# Altium schematic symbol library WE-XHMI.SchLib: 178 symbols (part 1 of 4)
Pins are listed as number, name and electrical type; pins without a type are passive.

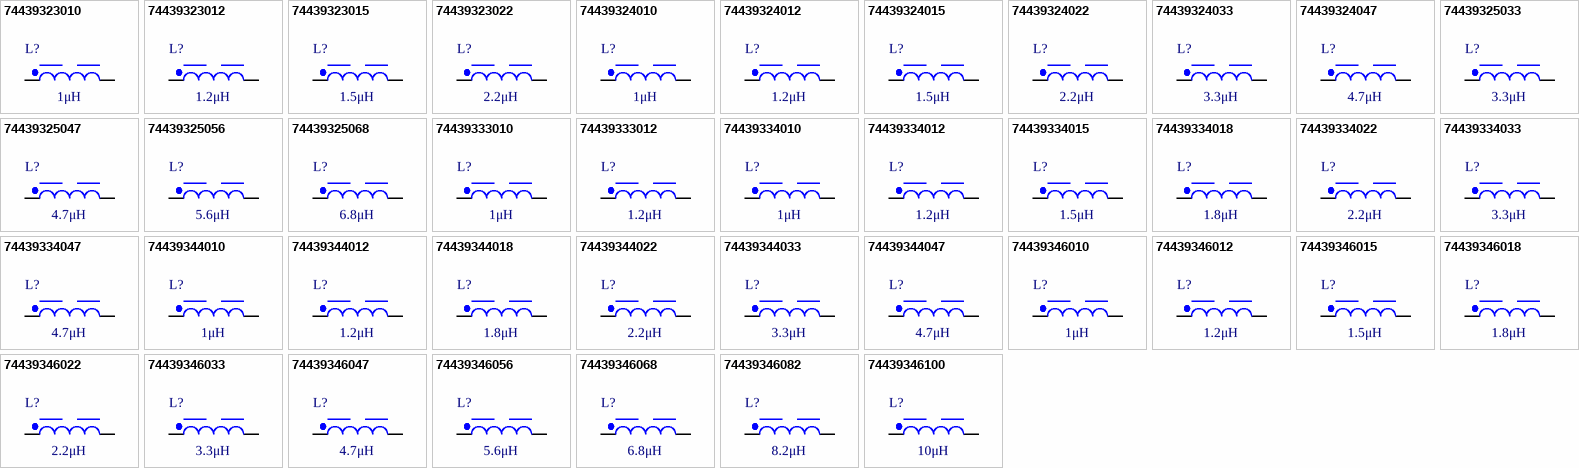
[diagram p0: symbols 74439323010 to 74439346100]

## 74439323010
designator L?, comment 1μH
WE-XHMI SMT Power Inductor, size 4020, 1μH, 10A, 13.44mΩ; Manufacturer Part Number: 74439323010; Manufacturer: Wurth Elektronik; Case/Size Code: 4020; DC Resistance: 10.7mΩ; Saturation Current @ 30%: 10.2A; Self Resonant Frequency: 60MHz; Category: Power Inductors; Match Code: WE-XHMI; ComponentLink1Description: Website Link; ComponentLink1URL: https://www.we-online.com/redexpert/article/74439323010?ad; ComponentLink2Description: Datasheet Link; ComponentLink2URL: https://www.we-online.com/redexpert/spec/74439323010?ad; Mount: Surface Mount; Min Operating Temperature: -40°C; Max Operating Temperature: 125°C; Packaging: Tape and Reel; Length: 4.3mm; Width: 4.3mm; Height: 2mm; DC Resistance Max: 13.44mΩ; Inductance: 1μH; Performance Rated Current: 10A
footprint WE-XHMI_4020
simulation model 4020_74439323010_1u
pins: 1, 2

## 74439323012
designator L?, comment 1.2μH
WE-XHMI SMT Power Inductor, size 4020, 1.2μH, 8.9A, 16.08mΩ; Manufacturer Part Number: 74439323012; Manufacturer: Wurth Elektronik; Case/Size Code: 4020; DC Resistance: 12.5mΩ; Saturation Current @ 30%: 8.6A; Self Resonant Frequency: 55MHz; Category: Power Inductors; Match Code: WE-XHMI; ComponentLink1Description: Website Link; ComponentLink1URL: https://www.we-online.com/redexpert/article/74439323012?ad; ComponentLink2Description: Datasheet Link; ComponentLink2URL: https://www.we-online.com/redexpert/spec/74439323012?ad; Mount: Surface Mount; Min Operating Temperature: -40°C; Max Operating Temperature: 125°C; Packaging: Tape and Reel; Length: 4.3mm; Width: 4.3mm; Height: 2mm; DC Resistance Max: 16.08mΩ; Inductance: 1.2μH; Performance Rated Current: 8.9A
footprint WE-XHMI_4020
simulation model 4020_74439323012_1.2u
pins: 1, 2

## 74439323015
designator L?, comment 1.5μH
WE-XHMI SMT Power Inductor, size 4020, 1.5μH, 7.8A, 18.48mΩ; Manufacturer Part Number: 74439323015; Manufacturer: Wurth Elektronik; Case/Size Code: 4020; DC Resistance: 16.3mΩ; Saturation Current @ 30%: 8.4A; Self Resonant Frequency: 53MHz; Category: Power Inductors; Match Code: WE-XHMI; ComponentLink1Description: Website Link; ComponentLink1URL: https://www.we-online.com/redexpert/article/74439323015?ad; ComponentLink2Description: Datasheet Link; ComponentLink2URL: https://www.we-online.com/redexpert/spec/74439323015?ad; Mount: Surface Mount; Min Operating Temperature: -40°C; Max Operating Temperature: 125°C; Packaging: Tape and Reel; Length: 4.3mm; Width: 4.3mm; Height: 2mm; DC Resistance Max: 18.48mΩ; Inductance: 1.5μH; Performance Rated Current: 7.8A
footprint WE-XHMI_4020
simulation model 4020_74439323015_1.5u
pins: 1, 2

## 74439323022
designator L?, comment 2.2μH
WE-XHMI SMT Power Inductor, size 4020, 2.2μH, 7.2A, 23.52mΩ; Manufacturer Part Number: 74439323022; Manufacturer: Wurth Elektronik; Case/Size Code: 4020; DC Resistance: 20.2mΩ; Saturation Current @ 30%: 6.3A; Self Resonant Frequency: 37MHz; Category: Power Inductors; Match Code: WE-XHMI; ComponentLink1Description: Website Link; ComponentLink1URL: https://www.we-online.com/redexpert/article/74439323022?ad; ComponentLink2Description: Datasheet Link; ComponentLink2URL: https://www.we-online.com/redexpert/spec/74439323022?ad; Mount: Surface Mount; Min Operating Temperature: -40°C; Max Operating Temperature: 125°C; Packaging: Tape and Reel; Length: 4.3mm; Width: 4.3mm; Height: 2mm; DC Resistance Max: 23.52mΩ; Inductance: 2.2μH; Performance Rated Current: 7.2A
footprint WE-XHMI_4020
simulation model 4020_74439323022_2.2u
pins: 1, 2

## 74439324010
designator L?, comment 1μH
WE-XHMI SMT Power Inductor, size 4030, 1μH, 11.1A, 10.32mΩ; Manufacturer Part Number: 74439324010; Manufacturer: Wurth Elektronik; Case/Size Code: 4030; DC Resistance: 8.7mΩ; Saturation Current @ 30%: 12A; Self Resonant Frequency: 55MHz; Category: Power Inductors; Match Code: WE-XHMI; ComponentLink1Description: Website Link; ComponentLink1URL: https://www.we-online.com/redexpert/article/74439324010?ad; ComponentLink2Description: Datasheet Link; ComponentLink2URL: https://www.we-online.com/redexpert/spec/74439324010?ad; Mount: Surface Mount; Min Operating Temperature: -40°C; Max Operating Temperature: 125°C; Packaging: Tape and Reel; Length: 4.3mm; Width: 4.3mm; Height: 3mm; DC Resistance Max: 10.32mΩ; Inductance: 1μH; Performance Rated Current: 11.1A
footprint WE-XHMI_4030
simulation model 4030_74439324010_1u
pins: 1, 2

## 74439324012
designator L?, comment 1.2μH
WE-XHMI SMT Power Inductor, size 4030, 1.2μH, 10.9A, 10.8mΩ; Manufacturer Part Number: 74439324012; Manufacturer: Wurth Elektronik; Case/Size Code: 4030; DC Resistance: 8.9mΩ; Saturation Current @ 30%: 11.8A; Self Resonant Frequency: 52MHz; Category: Power Inductors; Match Code: WE-XHMI; ComponentLink1Description: Website Link; ComponentLink1URL: https://www.we-online.com/redexpert/article/74439324012?ad; ComponentLink2Description: Datasheet Link; ComponentLink2URL: https://www.we-online.com/redexpert/spec/74439324012?ad; Mount: Surface Mount; Min Operating Temperature: -40°C; Max Operating Temperature: 125°C; Packaging: Tape and Reel; Length: 4.3mm; Width: 4.3mm; Height: 3mm; DC Resistance Max: 10.8mΩ; Inductance: 1.2μH; Performance Rated Current: 10.9A
footprint WE-XHMI_4030
simulation model 4030_74439324012_1.2u
pins: 1, 2

## 74439324015
designator L?, comment 1.5μH
WE-XHMI SMT Power Inductor, size 4030, 1.5μH, 10.6A, 12.9mΩ; Manufacturer Part Number: 74439324015; Manufacturer: Wurth Elektronik; Case/Size Code: 4030; DC Resistance: 10.1mΩ; Saturation Current @ 30%: 11.6A; Self Resonant Frequency: 48MHz; Category: Power Inductors; Match Code: WE-XHMI; ComponentLink1Description: Website Link; ComponentLink1URL: https://www.we-online.com/redexpert/article/74439324015?ad; ComponentLink2Description: Datasheet Link; ComponentLink2URL: https://www.we-online.com/redexpert/spec/74439324015?ad; Mount: Surface Mount; Min Operating Temperature: -40°C; Max Operating Temperature: 125°C; Packaging: Tape and Reel; Length: 4.3mm; Width: 4.3mm; Height: 3mm; DC Resistance Max: 12.9mΩ; Inductance: 1.5μH; Performance Rated Current: 10.6A
footprint WE-XHMI_4030
simulation model 4030_74439324015_1.5u
pins: 1, 2

## 74439324022
designator L?, comment 2.2μH
WE-XHMI SMT Power Inductor, size 4030, 2.2μH, 7.8A, 19.8mΩ; Manufacturer Part Number: 74439324022; Manufacturer: Wurth Elektronik; Case/Size Code: 4030; DC Resistance: 16.6mΩ; Saturation Current @ 30%: 10.5A; Self Resonant Frequency: 40MHz; Category: Power Inductors; Match Code: WE-XHMI; ComponentLink1Description: Website Link; ComponentLink1URL: https://www.we-online.com/redexpert/article/74439324022?ad; ComponentLink2Description: Datasheet Link; ComponentLink2URL: https://www.we-online.com/redexpert/spec/74439324022?ad; Mount: Surface Mount; Min Operating Temperature: -40°C; Max Operating Temperature: 125°C; Packaging: Tape and Reel; Length: 4.3mm; Width: 4.3mm; Height: 3mm; DC Resistance Max: 19.8mΩ; Inductance: 2.2μH; Performance Rated Current: 7.8A
footprint WE-XHMI_4030
simulation model 4030_74439324022_2.2u
pins: 1, 2

## 74439324033
designator L?, comment 3.3μH
WE-XHMI SMT Power Inductor, size 4030, 3.3μH, 7.1A, 25.5mΩ; Manufacturer Part Number: 74439324033; Manufacturer: Wurth Elektronik; Case/Size Code: 4030; DC Resistance: 20.2mΩ; Saturation Current @ 30%: 8.2A; Self Resonant Frequency: 30MHz; Category: Power Inductors; Match Code: WE-XHMI; ComponentLink1Description: Website Link; ComponentLink1URL: https://www.we-online.com/redexpert/article/74439324033?ad; ComponentLink2Description: Datasheet Link; ComponentLink2URL: https://www.we-online.com/redexpert/spec/74439324033?ad; Mount: Surface Mount; Min Operating Temperature: -40°C; Max Operating Temperature: 125°C; Packaging: Tape and Reel; Length: 4.3mm; Width: 4.3mm; Height: 3mm; DC Resistance Max: 25.5mΩ; Inductance: 3.3μH; Performance Rated Current: 7.1A
footprint WE-XHMI_4030
simulation model 4030_74439324033_3.3u
pins: 1, 2

## 74439324047
designator L?, comment 4.7μH
WE-XHMI SMT Power Inductor, size 4030, 4.7μH, 5.3A, 36.96mΩ; Manufacturer Part Number: 74439324047; Manufacturer: Wurth Elektronik; Case/Size Code: 4030; DC Resistance: 31.3mΩ; Saturation Current @ 30%: 5.8A; Self Resonant Frequency: 28MHz; Category: Power Inductors; Match Code: WE-XHMI; ComponentLink1Description: Website Link; ComponentLink1URL: https://www.we-online.com/redexpert/article/74439324047?ad; ComponentLink2Description: Datasheet Link; ComponentLink2URL: https://www.we-online.com/redexpert/spec/74439324047?ad; Mount: Surface Mount; Min Operating Temperature: -40°C; Max Operating Temperature: 125°C; Packaging: Tape and Reel; Length: 4.3mm; Width: 4.3mm; Height: 3mm; DC Resistance Max: 36.96mΩ; Inductance: 4.7μH; Performance Rated Current: 5.3A
footprint WE-XHMI_4030
simulation model 4030_74439324047_4.7u
pins: 1, 2

## 74439325033
designator L?, comment 3.3μH
WE-XHMI SMT Power Inductor, size 4040, 3.3μH, 7.2A, 25mΩ; Manufacturer Part Number: 74439325033; Manufacturer: Wurth Elektronik; Case/Size Code: 4040; DC Resistance: 20.4mΩ; Saturation Current @ 30%: 7.9A; Self Resonant Frequency: 30MHz; Category: Power Inductors; Match Code: WE-XHMI; ComponentLink1Description: Website Link; ComponentLink1URL: https://www.we-online.com/redexpert/article/74439325033?ad; ComponentLink2Description: Datasheet Link; ComponentLink2URL: https://www.we-online.com/redexpert/spec/74439325033?ad; Mount: Surface Mount; Min Operating Temperature: -40°C; Max Operating Temperature: 125°C; Packaging: Tape and Reel; Length: 4.3mm; Width: 4.3mm; Height: 4.1mm; DC Resistance Max: 25mΩ; Inductance: 3.3μH; Performance Rated Current: 7.2A
footprint WE-XHMI_4040
simulation model 4040_74439325033_3.3u
pins: 1, 2

## 74439325047
designator L?, comment 4.7μH
WE-XHMI SMT Power Inductor, size 4040, 4.7μH, 5.7A, 34.8mΩ; Manufacturer Part Number: 74439325047; Manufacturer: Wurth Elektronik; Case/Size Code: 4040; DC Resistance: 26.5mΩ; Self Resonant Frequency: 25MHz; Category: Power Inductors; Match Code: WE-XHMI; ComponentLink1Description: Website Link; ComponentLink1URL: https://www.we-online.com/redexpert/article/74439325047?ad; ComponentLink2Description: Datasheet Link; ComponentLink2URL: https://www.we-online.com/redexpert/spec/74439325047?ad; Mount: Surface Mount; Min Operating Temperature: -40°C; Max Operating Temperature: 125°C; Packaging: Tape and Reel; Length: 4.3mm; Width: 4.3mm; Height: 4.1mm; DC Resistance Max: 34.8mΩ; Inductance: 4.7μH; Performance Rated Current: 5.7A; Saturation Current @ 30%: 5.7A
footprint WE-XHMI_4040
simulation model 4040_74439325047_4.7u
pins: 1, 2

## 74439325056
designator L?, comment 5.6μH
WE-XHMI SMT Power Inductor, size 4040, 5.6μH, 5.1A, 44.4mΩ; Manufacturer Part Number: 74439325056; Manufacturer: Wurth Elektronik; Case/Size Code: 4040; DC Resistance: 34.2mΩ; Saturation Current @ 30%: 5.5A; Self Resonant Frequency: 23MHz; Category: Power Inductors; Match Code: WE-XHMI; ComponentLink1Description: Website Link; ComponentLink1URL: https://www.we-online.com/redexpert/article/74439325056?ad; ComponentLink2Description: Datasheet Link; ComponentLink2URL: https://www.we-online.com/redexpert/spec/74439325056?ad; Mount: Surface Mount; Min Operating Temperature: -40°C; Max Operating Temperature: 125°C; Packaging: Tape and Reel; Length: 4.3mm; Width: 4.3mm; Height: 4.1mm; DC Resistance Max: 44.4mΩ; Inductance: 5.6μH; Performance Rated Current: 5.1A
footprint WE-XHMI_4040
simulation model 4040_74439325056_5.6u
pins: 1, 2

## 74439325068
designator L?, comment 6.8μH
WE-XHMI SMT Power Inductor, size 4040, 6.8μH, 4.1A, 55mΩ; Manufacturer Part Number: 74439325068; Manufacturer: Wurth Elektronik; Case/Size Code: 4040; DC Resistance: 42.3mΩ; Saturation Current @ 30%: 4.9A; Self Resonant Frequency: 23MHz; Category: Power Inductors; Match Code: WE-XHMI; ComponentLink1Description: Website Link; ComponentLink1URL: https://www.we-online.com/redexpert/article/74439325068?ad; ComponentLink2Description: Datasheet Link; ComponentLink2URL: https://www.we-online.com/redexpert/spec/74439325068?ad; Mount: Surface Mount; Min Operating Temperature: -40°C; Max Operating Temperature: 125°C; Packaging: Tape and Reel; Length: 4.3mm; Width: 4.3mm; Height: 4.1mm; DC Resistance Max: 55mΩ; Inductance: 6.8μH; Performance Rated Current: 4.1A
footprint WE-XHMI_4040
simulation model 4040_74439325068_6.8u
pins: 1, 2

## 74439333010
designator L?, comment 1μH
WE-XHMI SMT Power Inductor, size 5020, 1μH, 11.4A, 10.92mΩ; Manufacturer Part Number: 74439333010; Manufacturer: Wurth Elektronik; Case/Size Code: 5020; DC Resistance: 9.5mΩ; Saturation Current @ 30%: 14.4A; Self Resonant Frequency: 55MHz; Category: Power Inductors; Match Code: WE-XHMI; ComponentLink1Description: Website Link; ComponentLink1URL: https://www.we-online.com/redexpert/article/74439333010?ad; ComponentLink2Description: Datasheet Link; ComponentLink2URL: https://www.we-online.com/redexpert/spec/74439333010?ad; Mount: Surface Mount; Min Operating Temperature: -40°C; Max Operating Temperature: 125°C; Packaging: Tape and Reel; Length: 5.55mm; Width: 5.35mm; Height: 2mm; DC Resistance Max: 10.92mΩ; Inductance: 1μH; Performance Rated Current: 11.4A
footprint WE-XHMI_5020
simulation model 5020_74439333010_1u
pins: 1, 2

## 74439333012
designator L?, comment 1.2μH
WE-XHMI SMT Power Inductor, size 5020, 1.2μH, 10.7A, 15mΩ; Manufacturer Part Number: 74439333012; Manufacturer: Wurth Elektronik; Case/Size Code: 5020; DC Resistance: 10.8mΩ; Saturation Current @ 30%: 11.6A; Self Resonant Frequency: 50MHz; Category: Power Inductors; Match Code: WE-XHMI; ComponentLink1Description: Website Link; ComponentLink1URL: https://www.we-online.com/redexpert/article/74439333012?ad; ComponentLink2Description: Datasheet Link; ComponentLink2URL: https://www.we-online.com/redexpert/spec/74439333012?ad; Mount: Surface Mount; Min Operating Temperature: -40°C; Max Operating Temperature: 125°C; Packaging: Tape and Reel; Length: 5.55mm; Width: 5.35mm; Height: 2mm; DC Resistance Max: 15mΩ; Inductance: 1.2μH; Performance Rated Current: 10.7A
footprint WE-XHMI_5020
simulation model 5020_74439333012_1.2u
pins: 1, 2

## 74439334010
designator L?, comment 1μH
WE-XHMI SMT Power Inductor, size 5030, 1μH, 14.7A, 8.4mΩ; Manufacturer Part Number: 74439334010; Manufacturer: Wurth Elektronik; Case/Size Code: 5030; DC Resistance: 6.3mΩ; Saturation Current @ 30%: 13.4A; Self Resonant Frequency: 48MHz; Category: Power Inductors; Match Code: WE-XHMI; ComponentLink1Description: Website Link; ComponentLink1URL: https://www.we-online.com/redexpert/article/74439334010?ad; ComponentLink2Description: Datasheet Link; ComponentLink2URL: https://www.we-online.com/redexpert/spec/74439334010?ad; Mount: Surface Mount; Min Operating Temperature: -40°C; Max Operating Temperature: 125°C; Packaging: Tape and Reel; Length: 5.55mm; Width: 5.35mm; Height: 3mm; DC Resistance Max: 8.4mΩ; Inductance: 1μH; Performance Rated Current: 14.7A
footprint WE-XHMI_5030
simulation model 5030_74439334010_1u
pins: 1, 2

## 74439334012
designator L?, comment 1.2μH
WE-XHMI SMT Power Inductor, size 5030, 1.2μH, 13.6A, 8.76mΩ; Manufacturer Part Number: 74439334012; Manufacturer: Wurth Elektronik; Case/Size Code: 5030; DC Resistance: 6.6mΩ; Saturation Current @ 30%: 13.3A; Self Resonant Frequency: 46MHz; Category: Power Inductors; Match Code: WE-XHMI; ComponentLink1Description: Website Link; ComponentLink1URL: https://www.we-online.com/redexpert/article/74439334012?ad; ComponentLink2Description: Datasheet Link; ComponentLink2URL: https://www.we-online.com/redexpert/spec/74439334012?ad; Mount: Surface Mount; Min Operating Temperature: -40°C; Max Operating Temperature: 125°C; Packaging: Tape and Reel; Length: 5.55mm; Width: 5.35mm; Height: 3mm; DC Resistance Max: 8.76mΩ; Inductance: 1.2μH; Performance Rated Current: 13.6A
footprint WE-XHMI_5030
simulation model 5030_74439334012_1.2u
pins: 1, 2

## 74439334015
designator L?, comment 1.5μH
WE-XHMI SMT Power Inductor, size 5030, 1.5μH, 12A, 20.56mΩ; Manufacturer Part Number: 74439334015; Manufacturer: Wurth Elektronik; Case/Size Code: 5030; DC Resistance: 8mΩ; Saturation Current @ 30%: 13A; Self Resonant Frequency: 42MHz; Category: Power Inductors; Match Code: WE-XHMI; ComponentLink1Description: Website Link; ComponentLink1URL: https://www.we-online.com/redexpert/article/74439334015?ad; ComponentLink2Description: Datasheet Link; ComponentLink2URL: https://www.we-online.com/redexpert/spec/74439334015?ad; Mount: Surface Mount; Min Operating Temperature: -40°C; Max Operating Temperature: 125°C; Packaging: Tape and Reel; Length: 5.55mm; Width: 5.35mm; Height: 3mm; DC Resistance Max: 20.56mΩ; Inductance: 1.5μH; Performance Rated Current: 12A
footprint WE-XHMI_5030
simulation model 5030_74439334015_1.5u
pins: 1, 2

## 74439334018
designator L?, comment 1.8μH
WE-XHMI SMT Power Inductor, size 5030, 1.8μH, 10.8A, 10.8mΩ; Manufacturer Part Number: 74439334018; Manufacturer: Wurth Elektronik; Case/Size Code: 5030; DC Resistance: 9.1mΩ; Saturation Current @ 30%: 12.9A; Self Resonant Frequency: 40MHz; Category: Power Inductors; Match Code: WE-XHMI; ComponentLink1Description: Website Link; ComponentLink1URL: https://www.we-online.com/redexpert/article/74439334018?ad; ComponentLink2Description: Datasheet Link; ComponentLink2URL: https://www.we-online.com/redexpert/spec/74439334018?ad; Mount: Surface Mount; Min Operating Temperature: -40°C; Max Operating Temperature: 125°C; Packaging: Tape and Reel; Length: 5.55mm; Width: 5.35mm; Height: 3mm; DC Resistance Max: 10.8mΩ; Inductance: 1.8μH; Performance Rated Current: 10.8A
footprint WE-XHMI_5030
simulation model 5030_74439334018_1.8u
pins: 1, 2

## 74439334022
designator L?, comment 2.2μH
WE-XHMI SMT Power Inductor, size 5030, 2.2μH, 10.3A, 14.52mΩ; Manufacturer Part Number: 74439334022; Manufacturer: Wurth Elektronik; Case/Size Code: 5030; DC Resistance: 11.3mΩ; Saturation Current @ 30%: 12.8A; Self Resonant Frequency: 35MHz; Category: Power Inductors; Match Code: WE-XHMI; ComponentLink1Description: Website Link; ComponentLink1URL: https://www.we-online.com/redexpert/article/74439334022?ad; ComponentLink2Description: Datasheet Link; ComponentLink2URL: https://www.we-online.com/redexpert/spec/74439334022?ad; Mount: Surface Mount; Min Operating Temperature: -40°C; Max Operating Temperature: 125°C; Packaging: Tape and Reel; Length: 5.55mm; Width: 5.35mm; Height: 3mm; DC Resistance Max: 14.52mΩ; Inductance: 2.2μH; Performance Rated Current: 10.3A
footprint WE-XHMI_5030
simulation model 5030_74439334022_2.2u
pins: 1, 2

## 74439334033
designator L?, comment 3.3μH
WE-XHMI SMT Power Inductor, size 5030, 3.3μH, 8.2A, 19.92mΩ; Manufacturer Part Number: 74439334033; Manufacturer: Wurth Elektronik; Case/Size Code: 5030; DC Resistance: 16.3mΩ; Saturation Current @ 30%: 8A; Self Resonant Frequency: 25MHz; Category: Power Inductors; Match Code: WE-XHMI; ComponentLink1Description: Website Link; ComponentLink1URL: https://www.we-online.com/redexpert/article/74439334033?ad; ComponentLink2Description: Datasheet Link; ComponentLink2URL: https://www.we-online.com/redexpert/spec/74439334033?ad; Mount: Surface Mount; Min Operating Temperature: -40°C; Max Operating Temperature: 125°C; Packaging: Tape and Reel; Length: 5.55mm; Width: 5.35mm; Height: 3mm; DC Resistance Max: 19.92mΩ; Inductance: 3.3μH; Performance Rated Current: 8.2A
footprint WE-XHMI_5030
simulation model 5030_74439334033_3.3u
pins: 1, 2

## 74439334047
designator L?, comment 4.7μH
WE-XHMI SMT Power Inductor, size 5030, 4.7μH, 6.8A, 27.96mΩ; Manufacturer Part Number: 74439334047; Manufacturer: Wurth Elektronik; Case/Size Code: 5030; DC Resistance: 22.9mΩ; Saturation Current @ 30%: 7.5A; Self Resonant Frequency: 22MHz; Category: Power Inductors; Match Code: WE-XHMI; ComponentLink1Description: Website Link; ComponentLink1URL: https://www.we-online.com/redexpert/article/74439334047?ad; ComponentLink2Description: Datasheet Link; ComponentLink2URL: https://www.we-online.com/redexpert/spec/74439334047?ad; Mount: Surface Mount; Min Operating Temperature: -40°C; Max Operating Temperature: 125°C; Packaging: Tape and Reel; Length: 5.55mm; Width: 5.35mm; Height: 3mm; DC Resistance Max: 27.96mΩ; Inductance: 4.7μH; Performance Rated Current: 6.8A
footprint WE-XHMI_5030
simulation model 5030_74439334047_4.7u
pins: 1, 2

## 74439344010
designator L?, comment 1μH
WE-XHMI SMT Power Inductor, size 6030, 1μH, 15.75A, 6.05mΩ; Manufacturer Part Number: 74439344010; Manufacturer: Wurth Elektronik; Case/Size Code: 6030; DC Resistance: 5.5mΩ; Saturation Current @ 30%: 24.95A; Self Resonant Frequency: 59MHz; Category: Power Inductors; Match Code: WE-XHMI; ComponentLink1Description: Website Link; ComponentLink1URL: https://www.we-online.com/redexpert/article/74439344010?ad; ComponentLink2Description: Datasheet Link; ComponentLink2URL: https://www.we-online.com/redexpert/spec/74439344010?ad; Mount: Surface Mount; Min Operating Temperature: -40°C; Max Operating Temperature: 125°C; Packaging: Tape and Reel; Length: 6.65mm; Width: 6.45mm; Height: 3mm; DC Resistance Max: 6.05mΩ; Inductance: 1μH; Performance Rated Current: 15.75A
footprint WE-XHMI_6030
simulation model 6030_74439344010_1u
pins: 1, 2

## 74439344012
designator L?, comment 1.2μH
WE-XHMI SMT Power Inductor, size 6030, 1.2μH, 14.45A, 7.04mΩ; Manufacturer Part Number: 74439344012; Manufacturer: Wurth Elektronik; Case/Size Code: 6030; DC Resistance: 6.4mΩ; Saturation Current @ 30%: 21.6A; Self Resonant Frequency: 53MHz; Category: Power Inductors; Match Code: WE-XHMI; ComponentLink1Description: Website Link; ComponentLink1URL: https://www.we-online.com/redexpert/article/74439344012?ad; ComponentLink2Description: Datasheet Link; ComponentLink2URL: https://www.we-online.com/redexpert/spec/74439344012?ad; Mount: Surface Mount; Min Operating Temperature: -40°C; Max Operating Temperature: 125°C; Packaging: Tape and Reel; Length: 6.65mm; Width: 6.45mm; Height: 3mm; DC Resistance Max: 7.04mΩ; Inductance: 1.2μH; Performance Rated Current: 14.45A
footprint WE-XHMI_6030
simulation model 6030_74439344012_1.2u
pins: 1, 2

## 74439344018
designator L?, comment 1.8μH
WE-XHMI SMT Power Inductor, size 6030, 1.8μH, 14.4A, 10.45mΩ; Manufacturer Part Number: 74439344018; Manufacturer: Wurth Elektronik; Case/Size Code: 6030; DC Resistance: 9.7mΩ; Saturation Current @ 30%: 17.6A; Self Resonant Frequency: 38MHz; Category: Power Inductors; Match Code: WE-XHMI; ComponentLink1Description: Website Link; ComponentLink1URL: https://www.we-online.com/redexpert/article/74439344018?ad; ComponentLink2Description: Datasheet Link; ComponentLink2URL: https://www.we-online.com/redexpert/spec/74439344018?ad; Mount: Surface Mount; Min Operating Temperature: -40°C; Max Operating Temperature: 125°C; Packaging: Tape and Reel; Length: 6.65mm; Width: 6.45mm; Height: 3mm; DC Resistance Max: 10.45mΩ; Inductance: 1.8μH; Performance Rated Current: 14.4A
footprint WE-XHMI_6030
simulation model 6030_74439344018_1.8u
pins: 1, 2

## 74439344022
designator L?, comment 2.2μH
WE-XHMI SMT Power Inductor, size 6030, 2.2μH, 10.85A, 11.55mΩ; Manufacturer Part Number: 74439344022; Manufacturer: Wurth Elektronik; Case/Size Code: 6030; DC Resistance: 10.5mΩ; Saturation Current @ 30%: 16.25A; Self Resonant Frequency: 37MHz; Category: Power Inductors; Match Code: WE-XHMI; ComponentLink1Description: Website Link; ComponentLink1URL: https://www.we-online.com/redexpert/article/74439344022?ad; ComponentLink2Description: Datasheet Link; ComponentLink2URL: https://www.we-online.com/redexpert/spec/74439344022?ad; Mount: Surface Mount; Min Operating Temperature: -40°C; Max Operating Temperature: 125°C; Packaging: Tape and Reel; Length: 6.65mm; Width: 6.45mm; Height: 3mm; DC Resistance Max: 11.55mΩ; Inductance: 2.2μH; Performance Rated Current: 10.85A
footprint WE-XHMI_6030
simulation model 6030_74439344022_2.2u
pins: 1, 2

## 74439344033
designator L?, comment 3.3μH
WE-XHMI SMT Power Inductor, size 6030, 3.3μH, 7.65A, 21.12mΩ; Manufacturer Part Number: 74439344033; Manufacturer: Wurth Elektronik; Case/Size Code: 6030; DC Resistance: 19.2mΩ; Saturation Current @ 30%: 14.5A; Self Resonant Frequency: 31MHz; Category: Power Inductors; Match Code: WE-XHMI; ComponentLink1Description: Website Link; ComponentLink1URL: https://www.we-online.com/redexpert/article/74439344033?ad; ComponentLink2Description: Datasheet Link; ComponentLink2URL: https://www.we-online.com/redexpert/spec/74439344033?ad; Mount: Surface Mount; Min Operating Temperature: -40°C; Max Operating Temperature: 125°C; Packaging: Tape and Reel; Length: 6.65mm; Width: 6.45mm; Height: 3mm; DC Resistance Max: 21.12mΩ; Inductance: 3.3μH; Performance Rated Current: 7.65A
footprint WE-XHMI_6030
simulation model 6030_74439344033_3.3u
pins: 1, 2

## 74439344047
designator L?, comment 4.7μH
WE-XHMI SMT Power Inductor, size 6030, 4.7μH, 5.8A, 34.1mΩ; Manufacturer Part Number: 74439344047; Manufacturer: Wurth Elektronik; Case/Size Code: 6030; DC Resistance: 31mΩ; Saturation Current @ 30%: 10.5A; Self Resonant Frequency: 28MHz; Category: Power Inductors; Match Code: WE-XHMI; ComponentLink1Description: Website Link; ComponentLink1URL: https://www.we-online.com/redexpert/article/74439344047?ad; ComponentLink2Description: Datasheet Link; ComponentLink2URL: https://www.we-online.com/redexpert/spec/74439344047?ad; Mount: Surface Mount; Min Operating Temperature: -40°C; Max Operating Temperature: 125°C; Packaging: Tape and Reel; Length: 6.65mm; Width: 6.45mm; Height: 3mm; DC Resistance Max: 34.1mΩ; Inductance: 4.7μH; Performance Rated Current: 5.8A
footprint WE-XHMI_6030
simulation model 6030_74439344047_4.7u
pins: 1, 2

## 74439346010
designator L?, comment 1μH
WE-XHMI SMT Power Inductor, size 6060, 1μH, 20.95A, 4.07mΩ; Manufacturer Part Number: 74439346010; Manufacturer: Wurth Elektronik; Case/Size Code: 6060; DC Resistance: 3.39mΩ; Saturation Current @ 30%: 24A; Self Resonant Frequency: 60MHz; Category: Power Inductors; Match Code: WE-XHMI; ComponentLink1Description: Website Link; ComponentLink1URL: https://www.we-online.com/redexpert/article/74439346010?ad; ComponentLink2Description: Datasheet Link; ComponentLink2URL: https://www.we-online.com/redexpert/spec/74439346010?ad; Mount: Surface Mount; Min Operating Temperature: -40°C; Max Operating Temperature: 125°C; Packaging: Tape and Reel; Length: 6.65mm; Width: 6.45mm; Height: 5.8mm; DC Resistance Max: 4.07mΩ; Inductance: 1μH; Performance Rated Current: 20.95A
footprint WE-XHMI_6060
simulation model 6060_74439346010_1u
pins: 1, 2

## 74439346012
designator L?, comment 1.2μH
WE-XHMI SMT Power Inductor, size 6060, 1.2μH, 20.5A, 4.38mΩ; Manufacturer Part Number: 74439346012; Manufacturer: Wurth Elektronik; Case/Size Code: 6060; DC Resistance: 3.65mΩ; Saturation Current @ 30%: 20A; Self Resonant Frequency: 50MHz; Category: Power Inductors; Match Code: WE-XHMI; ComponentLink1Description: Website Link; ComponentLink1URL: https://www.we-online.com/redexpert/article/74439346012?ad; ComponentLink2Description: Datasheet Link; ComponentLink2URL: https://www.we-online.com/redexpert/spec/74439346012?ad; Mount: Surface Mount; Min Operating Temperature: -40°C; Max Operating Temperature: 125°C; Packaging: Tape and Reel; Length: 6.65mm; Width: 6.45mm; Height: 5.8mm; DC Resistance Max: 4.38mΩ; Inductance: 1.2μH; Performance Rated Current: 20.5A
footprint WE-XHMI_6060
simulation model 6060_74439346012_1.2u
pins: 1, 2

## 74439346015
designator L?, comment 1.5μH
WE-XHMI SMT Power Inductor, size 6060, 1.5μH, 19.35A, 4.68mΩ; Manufacturer Part Number: 74439346015; Manufacturer: Wurth Elektronik; Case/Size Code: 6060; DC Resistance: 3.9mΩ; Saturation Current @ 30%: 20.5A; Self Resonant Frequency: 44MHz; Category: Power Inductors; Match Code: WE-XHMI; ComponentLink1Description: Website Link; ComponentLink1URL: https://www.we-online.com/redexpert/article/74439346015?ad; ComponentLink2Description: Datasheet Link; ComponentLink2URL: https://www.we-online.com/redexpert/spec/74439346015?ad; Mount: Surface Mount; Min Operating Temperature: -40°C; Max Operating Temperature: 125°C; Packaging: Tape and Reel; Length: 6.65mm; Width: 6.45mm; Height: 5.8mm; DC Resistance Max: 4.68mΩ; Inductance: 1.5μH; Performance Rated Current: 19.35A
footprint WE-XHMI_6060
simulation model 6060_74439346015_1.5u
pins: 1, 2

## 74439346018
designator L?, comment 1.8μH
WE-XHMI SMT Power Inductor, size 6060, 1.8μH, 17.35A, 5.64mΩ; Manufacturer Part Number: 74439346018; Manufacturer: Wurth Elektronik; Case/Size Code: 6060; DC Resistance: 4.7mΩ; Saturation Current @ 30%: 18.3A; Self Resonant Frequency: 42MHz; Category: Power Inductors; Match Code: WE-XHMI; ComponentLink1Description: Website Link; ComponentLink1URL: https://www.we-online.com/redexpert/article/74439346018?ad; ComponentLink2Description: Datasheet Link; ComponentLink2URL: https://www.we-online.com/redexpert/spec/74439346018?ad; Mount: Surface Mount; Min Operating Temperature: -40°C; Max Operating Temperature: 125°C; Packaging: Tape and Reel; Length: 6.65mm; Width: 6.45mm; Height: 5.8mm; DC Resistance Max: 5.64mΩ; Inductance: 1.8μH; Performance Rated Current: 17.35A
footprint WE-XHMI_6060
simulation model 6060_74439346018_1.8u
pins: 1, 2

## 74439346022
designator L?, comment 2.2μH
WE-XHMI SMT Power Inductor, size 6060, 2.2μH, 15.75A, 6.69mΩ; Manufacturer Part Number: 74439346022; Manufacturer: Wurth Elektronik; Case/Size Code: 6060; DC Resistance: 5.58mΩ; Saturation Current @ 30%: 19.5A; Self Resonant Frequency: 37MHz; Category: Power Inductors; Match Code: WE-XHMI; ComponentLink1Description: Website Link; ComponentLink1URL: https://www.we-online.com/redexpert/article/74439346022?ad; ComponentLink2Description: Datasheet Link; ComponentLink2URL: https://www.we-online.com/redexpert/spec/74439346022?ad; Mount: Surface Mount; Min Operating Temperature: -40°C; Max Operating Temperature: 125°C; Packaging: Tape and Reel; Length: 6.65mm; Width: 6.45mm; Height: 5.8mm; DC Resistance Max: 6.69mΩ; Inductance: 2.2μH; Performance Rated Current: 15.75A
footprint WE-XHMI_6060
simulation model 6060_74439346022_2.2u
pins: 1, 2

## 74439346033
designator L?, comment 3.3μH
WE-XHMI SMT Power Inductor, size 6060, 3.3μH, 10.7A, 12.99mΩ; Manufacturer Part Number: 74439346033; Manufacturer: Wurth Elektronik; Case/Size Code: 6060; DC Resistance: 10.83mΩ; Saturation Current @ 30%: 15A; Self Resonant Frequency: 31MHz; Category: Power Inductors; Match Code: WE-XHMI; ComponentLink1Description: Website Link; ComponentLink1URL: https://www.we-online.com/redexpert/article/74439346033?ad; ComponentLink2Description: Datasheet Link; ComponentLink2URL: https://www.we-online.com/redexpert/spec/74439346033?ad; Mount: Surface Mount; Min Operating Temperature: -40°C; Max Operating Temperature: 125°C; Packaging: Tape and Reel; Length: 6.65mm; Width: 6.45mm; Height: 5.8mm; DC Resistance Max: 12.99mΩ; Inductance: 3.3μH; Performance Rated Current: 10.7A
footprint WE-XHMI_6060
simulation model 6060_74439346033_3.3u
pins: 1, 2

## 74439346047
designator L?, comment 4.7μH
WE-XHMI SMT Power Inductor, size 6060, 4.7μH, 9.6A, 14.3mΩ; Manufacturer Part Number: 74439346047; Manufacturer: Wurth Elektronik; Case/Size Code: 6060; DC Resistance: 13mΩ; Saturation Current @ 30%: 13A; Self Resonant Frequency: 28MHz; Category: Power Inductors; Match Code: WE-XHMI; ComponentLink1Description: Website Link; ComponentLink1URL: https://www.we-online.com/redexpert/article/74439346047?ad; ComponentLink2Description: Datasheet Link; ComponentLink2URL: https://www.we-online.com/redexpert/spec/74439346047?ad; Mount: Surface Mount; Min Operating Temperature: -40°C; Max Operating Temperature: 125°C; Packaging: Tape and Reel; Length: 6.65mm; Width: 6.45mm; Height: 5.8mm; DC Resistance Max: 14.3mΩ; Inductance: 4.7μH; Performance Rated Current: 9.6A
footprint WE-XHMI_6060
simulation model 6060_74439346047_4.7u
pins: 1, 2

## 74439346056
designator L?, comment 5.6μH
WE-XHMI SMT Power Inductor, size 6060, 5.6μH, 8.9A, 16.5mΩ; Manufacturer Part Number: 74439346056; Manufacturer: Wurth Elektronik; Case/Size Code: 6060; DC Resistance: 15mΩ; Saturation Current @ 30%: 12.1A; Self Resonant Frequency: 25MHz; Category: Power Inductors; Match Code: WE-XHMI; ComponentLink1Description: Website Link; ComponentLink1URL: https://www.we-online.com/redexpert/article/74439346056?ad; ComponentLink2Description: Datasheet Link; ComponentLink2URL: https://www.we-online.com/redexpert/spec/74439346056?ad; Mount: Surface Mount; Min Operating Temperature: -40°C; Max Operating Temperature: 125°C; Packaging: Tape and Reel; Length: 6.65mm; Width: 6.45mm; Height: 5.8mm; DC Resistance Max: 16.5mΩ; Inductance: 5.6μH; Performance Rated Current: 8.9A
footprint WE-XHMI_6060
simulation model 6060_74439346056_5.6u
pins: 1, 2

## 74439346068
designator L?, comment 6.8μH
WE-XHMI SMT Power Inductor, size 6060, 6.8μH, 8.1A, 19.36mΩ; Manufacturer Part Number: 74439346068; Manufacturer: Wurth Elektronik; Case/Size Code: 6060; DC Resistance: 17.6mΩ; Saturation Current @ 30%: 11.3A; Self Resonant Frequency: 22MHz; Category: Power Inductors; Match Code: WE-XHMI; ComponentLink1Description: Website Link; ComponentLink1URL: https://www.we-online.com/redexpert/article/74439346068?ad; ComponentLink2Description: Datasheet Link; ComponentLink2URL: https://www.we-online.com/redexpert/spec/74439346068?ad; Mount: Surface Mount; Min Operating Temperature: -40°C; Max Operating Temperature: 125°C; Packaging: Tape and Reel; Length: 6.65mm; Width: 6.45mm; Height: 5.8mm; DC Resistance Max: 19.36mΩ; Inductance: 6.8μH; Performance Rated Current: 8.1A
footprint WE-XHMI_6060
simulation model 6060_74439346068_6.8u
pins: 1, 2

## 74439346082
designator L?, comment 8.2μH
WE-XHMI SMT Power Inductor, size 6060, 8.2μH, 6.95A, 25.3mΩ; Manufacturer Part Number: 74439346082; Manufacturer: Wurth Elektronik; Case/Size Code: 6060; DC Resistance: 23mΩ; Saturation Current @ 30%: 9.3A; Self Resonant Frequency: 19MHz; Category: Power Inductors; Match Code: WE-XHMI; ComponentLink1Description: Website Link; ComponentLink1URL: https://www.we-online.com/redexpert/article/74439346082?ad; ComponentLink2Description: Datasheet Link; ComponentLink2URL: https://www.we-online.com/redexpert/spec/74439346082?ad; Mount: Surface Mount; Min Operating Temperature: -40°C; Max Operating Temperature: 125°C; Packaging: Tape and Reel; Length: 6.65mm; Width: 6.45mm; Height: 5.8mm; DC Resistance Max: 25.3mΩ; Inductance: 8.2μH; Performance Rated Current: 6.95A
footprint WE-XHMI_6060
simulation model 6060_74439346082_8.2u
pins: 1, 2

## 74439346100
designator L?, comment 10μH
WE-XHMI SMT Power Inductor, size 6060, 10μH, 6.4A, 29.15mΩ; Manufacturer Part Number: 74439346100; Manufacturer: Wurth Elektronik; Case/Size Code: 6060; DC Resistance: 26.5mΩ; Saturation Current @ 30%: 9.7A; Self Resonant Frequency: 18MHz; Category: Power Inductors; Match Code: WE-XHMI; ComponentLink1Description: Website Link; ComponentLink1URL: https://www.we-online.com/redexpert/article/74439346100?ad; ComponentLink2Description: Datasheet Link; ComponentLink2URL: https://www.we-online.com/redexpert/spec/74439346100?ad; Mount: Surface Mount; Min Operating Temperature: -40°C; Max Operating Temperature: 125°C; Packaging: Tape and Reel; Length: 6.65mm; Width: 6.45mm; Height: 5.8mm; DC Resistance Max: 29.15mΩ; Inductance: 10μH; Performance Rated Current: 6.4A
footprint WE-XHMI_6060
simulation model 6060_74439346100_10u
pins: 1, 2

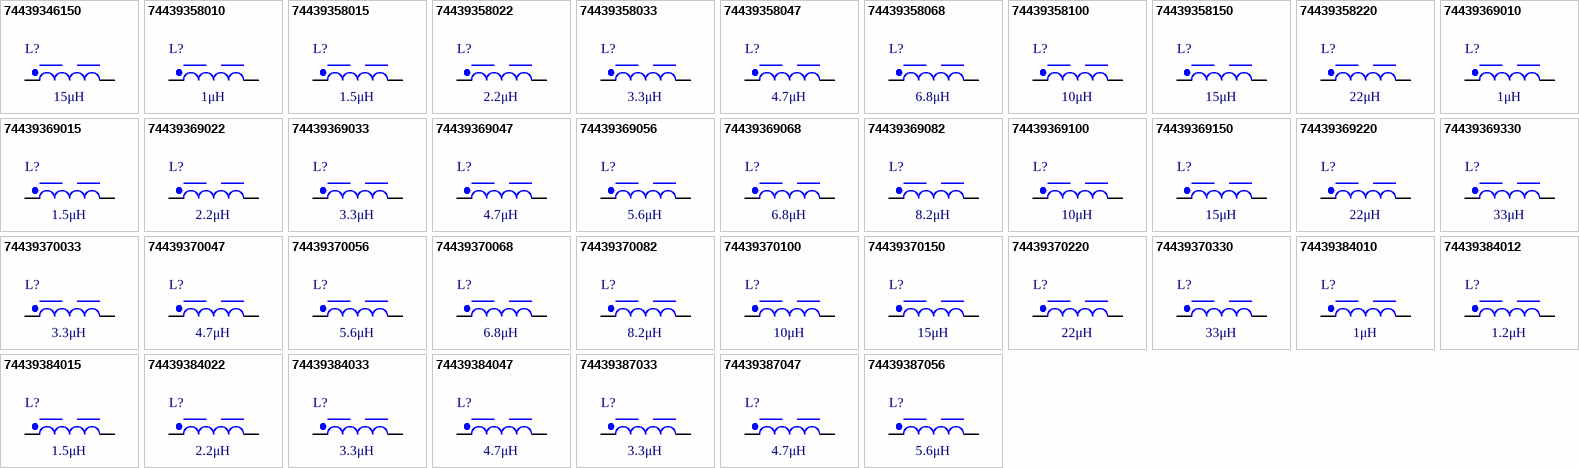
[diagram p1: symbols 74439346150 to 74439387056]

## 74439346150
designator L?, comment 15μH
WE-XHMI SMT Power Inductor, size 6060, 15μH, 4.9A, 46.2mΩ; Manufacturer Part Number: 74439346150; Manufacturer: Wurth Elektronik; Case/Size Code: 6060; DC Resistance: 42mΩ; Saturation Current @ 30%: 7.4A; Self Resonant Frequency: 14MHz; Category: Power Inductors; Match Code: WE-XHMI; ComponentLink1Description: Website Link; ComponentLink1URL: https://www.we-online.com/redexpert/article/74439346150?ad; ComponentLink2Description: Datasheet Link; ComponentLink2URL: https://www.we-online.com/redexpert/spec/74439346150?ad; Mount: Surface Mount; Min Operating Temperature: -40°C; Max Operating Temperature: 125°C; Packaging: Tape and Reel; Length: 6.65mm; Width: 6.45mm; Height: 5.8mm; DC Resistance Max: 46.2mΩ; Inductance: 15μH; Performance Rated Current: 4.9A
footprint WE-XHMI_6060
simulation model 6060_74439346150_15u
pins: 1, 2

## 74439358010
designator L?, comment 1μH
WE-XHMI SMT Power Inductor, size 8080, 1μH, 30.25A, 2.32mΩ; Manufacturer Part Number: 74439358010; Manufacturer: Wurth Elektronik; Case/Size Code: 8080; DC Resistance: 2.1mΩ; Saturation Current @ 30%: 38.15A; Self Resonant Frequency: 53MHz; Category: Power Inductors; Match Code: WE-XHMI; ComponentLink1Description: Website Link; ComponentLink1URL: https://www.we-online.com/redexpert/article/74439358010?ad; ComponentLink2Description: Datasheet Link; ComponentLink2URL: https://www.we-online.com/redexpert/spec/74439358010?ad; Mount: Surface Mount; Min Operating Temperature: -40°C; Max Operating Temperature: 125°C; Packaging: Tape and Reel; Length: 8.8mm; Width: 8.3mm; Height: 7.8mm; DC Resistance Max: 2.32mΩ; Inductance: 1μH; Performance Rated Current: 30.25A
footprint WE-XHMI_8080
simulation model 8080_74439358010_1u
pins: 1, 2

## 74439358015
designator L?, comment 1.5μH
WE-XHMI SMT Power Inductor, size 8080, 1.5μH, 25.1A, 3.5mΩ; Manufacturer Part Number: 74439358015; Manufacturer: Wurth Elektronik; Case/Size Code: 8080; DC Resistance: 2.91mΩ; Saturation Current @ 30%: 32A; Self Resonant Frequency: 37MHz; Category: Power Inductors; Match Code: WE-XHMI; ComponentLink1Description: Website Link; ComponentLink1URL: https://www.we-online.com/redexpert/article/74439358015?ad; ComponentLink2Description: Datasheet Link; ComponentLink2URL: https://www.we-online.com/redexpert/spec/74439358015?ad; Mount: Surface Mount; Min Operating Temperature: -40°C; Max Operating Temperature: 125°C; Packaging: Tape and Reel; Length: 8.8mm; Width: 8.3mm; Height: 7.8mm; DC Resistance Max: 3.5mΩ; Inductance: 1.5μH; Performance Rated Current: 25.1A
footprint WE-XHMI_8080
simulation model 8080_74439358015_1.5u
pins: 1, 2

## 74439358022
designator L?, comment 2.2μH
WE-XHMI SMT Power Inductor, size 8080, 2.2μH, 21.85A, 4.07mΩ; Manufacturer Part Number: 74439358022; Manufacturer: Wurth Elektronik; Case/Size Code: 8080; DC Resistance: 3.7mΩ; Saturation Current @ 30%: 26.45A; Self Resonant Frequency: 33MHz; Category: Power Inductors; Match Code: WE-XHMI; ComponentLink1Description: Website Link; ComponentLink1URL: https://www.we-online.com/redexpert/article/74439358022?ad; ComponentLink2Description: Datasheet Link; ComponentLink2URL: https://www.we-online.com/redexpert/spec/74439358022?ad; Mount: Surface Mount; Min Operating Temperature: -40°C; Max Operating Temperature: 125°C; Packaging: Tape and Reel; Length: 8.8mm; Width: 8.3mm; Height: 7.8mm; DC Resistance Max: 4.07mΩ; Inductance: 2.2μH; Performance Rated Current: 21.85A
footprint WE-XHMI_8080
simulation model 8080_74439358022_2.2u
pins: 1, 2

## 74439358033
designator L?, comment 3.3μH
WE-XHMI SMT Power Inductor, size 8080, 3.3μH, 17.9A, 7.48mΩ; Manufacturer Part Number: 74439358033; Manufacturer: Wurth Elektronik; Case/Size Code: 8080; DC Resistance: 6.8mΩ; Saturation Current @ 30%: 20.3A; Self Resonant Frequency: 25MHz; Category: Power Inductors; Match Code: WE-XHMI; ComponentLink1Description: Website Link; ComponentLink1URL: https://www.we-online.com/redexpert/article/74439358033?ad; ComponentLink2Description: Datasheet Link; ComponentLink2URL: https://www.we-online.com/redexpert/spec/74439358033?ad; Mount: Surface Mount; Min Operating Temperature: -40°C; Max Operating Temperature: 125°C; Packaging: Tape and Reel; Length: 8.8mm; Width: 8.3mm; Height: 7.8mm; DC Resistance Max: 7.48mΩ; Inductance: 3.3μH; Performance Rated Current: 17.9A
footprint WE-XHMI_8080
simulation model 8080_74439358033_3.3u
pins: 1, 2

## 74439358047
designator L?, comment 4.7μH
WE-XHMI SMT Power Inductor, size 8080, 4.7μH, 13.35A, 9.51mΩ; Manufacturer Part Number: 74439358047; Manufacturer: Wurth Elektronik; Case/Size Code: 8080; DC Resistance: 8.65mΩ; Saturation Current @ 30%: 16.65A; Self Resonant Frequency: 22MHz; Category: Power Inductors; Match Code: WE-XHMI; ComponentLink1Description: Website Link; ComponentLink1URL: https://www.we-online.com/redexpert/article/74439358047?ad; ComponentLink2Description: Datasheet Link; ComponentLink2URL: https://www.we-online.com/redexpert/spec/74439358047?ad; Mount: Surface Mount; Min Operating Temperature: -40°C; Max Operating Temperature: 125°C; Packaging: Tape and Reel; Length: 8.8mm; Width: 8.3mm; Height: 7.8mm; DC Resistance Max: 9.51mΩ; Inductance: 4.7μH; Performance Rated Current: 13.35A
footprint WE-XHMI_8080
simulation model 8080_74439358047_4.7u
pins: 1, 2

## 74439358068
designator L?, comment 6.8μH
WE-XHMI SMT Power Inductor, size 8080, 6.8μH, 10.55A, 14.3mΩ; Manufacturer Part Number: 74439358068; Manufacturer: Wurth Elektronik; Case/Size Code: 8080; DC Resistance: 13mΩ; Saturation Current @ 30%: 17.6A; Self Resonant Frequency: 22MHz; Category: Power Inductors; Match Code: WE-XHMI; ComponentLink1Description: Website Link; ComponentLink1URL: https://www.we-online.com/redexpert/article/74439358068?ad; ComponentLink2Description: Datasheet Link; ComponentLink2URL: https://www.we-online.com/redexpert/spec/74439358068?ad; Mount: Surface Mount; Min Operating Temperature: -40°C; Max Operating Temperature: 125°C; Packaging: Tape and Reel; Length: 8.8mm; Width: 8.3mm; Height: 7.8mm; DC Resistance Max: 14.3mΩ; Inductance: 6.8μH; Performance Rated Current: 10.55A
footprint WE-XHMI_8080
simulation model 8080_74439358068_6.8u
pins: 1, 2

## 74439358100
designator L?, comment 10μH
WE-XHMI SMT Power Inductor, size 8080, 10μH, 8.5A, 20.9mΩ; Manufacturer Part Number: 74439358100; Manufacturer: Wurth Elektronik; Case/Size Code: 8080; DC Resistance: 19mΩ; Saturation Current @ 30%: 13.5A; Self Resonant Frequency: 17MHz; Category: Power Inductors; Match Code: WE-XHMI; ComponentLink1Description: Website Link; ComponentLink1URL: https://www.we-online.com/redexpert/article/74439358100?ad; ComponentLink2Description: Datasheet Link; ComponentLink2URL: https://www.we-online.com/redexpert/spec/74439358100?ad; Mount: Surface Mount; Min Operating Temperature: -40°C; Max Operating Temperature: 125°C; Packaging: Tape and Reel; Length: 8.8mm; Width: 8.3mm; Height: 7.8mm; DC Resistance Max: 20.9mΩ; Inductance: 10μH; Performance Rated Current: 8.5A
footprint WE-XHMI_8080
simulation model 8080_74439358100_10u
pins: 1, 2

## 74439358150
designator L?, comment 15μH
WE-XHMI SMT Power Inductor, size 8080, 15μH, 7.25A, 27.5mΩ; Manufacturer Part Number: 74439358150; Manufacturer: Wurth Elektronik; Case/Size Code: 8080; DC Resistance: 25mΩ; Saturation Current @ 30%: 10.7A; Self Resonant Frequency: 12MHz; Category: Power Inductors; Match Code: WE-XHMI; ComponentLink1Description: Website Link; ComponentLink1URL: https://www.we-online.com/redexpert/article/74439358150?ad; ComponentLink2Description: Datasheet Link; ComponentLink2URL: https://www.we-online.com/redexpert/spec/74439358150?ad; Mount: Surface Mount; Min Operating Temperature: -40°C; Max Operating Temperature: 125°C; Packaging: Tape and Reel; Length: 8.8mm; Width: 8.3mm; Height: 7.8mm; DC Resistance Max: 27.5mΩ; Inductance: 15μH; Performance Rated Current: 7.25A
footprint WE-XHMI_8080
simulation model 8080_74439358150_15u
pins: 1, 2

## 74439358220
designator L?, comment 22μH
WE-XHMI SMT Power Inductor, size 8080, 22μH, 7.1A, 34.1mΩ; Manufacturer Part Number: 74439358220; Manufacturer: Wurth Elektronik; Case/Size Code: 8080; DC Resistance: 30.7mΩ; Saturation Current @ 30%: 8.3A; Self Resonant Frequency: 8MHz; Category: Power Inductors; Match Code: WE-XHMI; ComponentLink1Description: Website Link; ComponentLink1URL: https://www.we-online.com/redexpert/article/74439358220?ad; ComponentLink2Description: Datasheet Link; ComponentLink2URL: https://www.we-online.com/redexpert/spec/74439358220?ad; Mount: Surface Mount; Min Operating Temperature: -40°C; Max Operating Temperature: 125°C; Packaging: Tape and Reel; Length: 8.8mm; Width: 8.3mm; Height: 7.8mm; DC Resistance Max: 34.1mΩ; Inductance: 22μH; Performance Rated Current: 7.1A
footprint WE-XHMI_8080
simulation model 8080_74439358220_22u
pins: 1, 2

## 74439369010
designator L?, comment 1μH
WE-XHMI SMT Power Inductor, size 1090, 1μH, 48.2A, 1.61mΩ; Manufacturer Part Number: 74439369010; Manufacturer: Wurth Elektronik; Case/Size Code: 1090; DC Resistance: 1.4mΩ; Saturation Current @ 30%: 55.3A; Self Resonant Frequency: 40MHz; Category: Power Inductors; Match Code: WE-XHMI; ComponentLink1Description: Website Link; ComponentLink1URL: https://www.we-online.com/redexpert/article/74439369010?ad; ComponentLink2Description: Datasheet Link; ComponentLink2URL: https://www.we-online.com/redexpert/spec/74439369010?ad; Mount: Surface Mount; Min Operating Temperature: -40°C; Max Operating Temperature: 125°C; Packaging: Tape and Reel; Length: 11.6mm; Width: 10.5mm; Height: 8.8mm; DC Resistance Max: 1.61mΩ; Inductance: 1μH; Performance Rated Current: 48.2A
footprint WE-XHMI_1090
simulation model 1090_74439369010_1u
pins: 1, 2

## 74439369015
designator L?, comment 1.5μH
WE-XHMI SMT Power Inductor, size 1090, 1.5μH, 40.6A, 1.76mΩ; Manufacturer Part Number: 74439369015; Manufacturer: Wurth Elektronik; Case/Size Code: 1090; DC Resistance: 1.46mΩ; Saturation Current @ 30%: 38.55A; Self Resonant Frequency: 31MHz; Category: Power Inductors; Match Code: WE-XHMI; ComponentLink1Description: Website Link; ComponentLink1URL: https://www.we-online.com/redexpert/article/74439369015?ad; ComponentLink2Description: Datasheet Link; ComponentLink2URL: https://www.we-online.com/redexpert/spec/74439369015?ad; Mount: Surface Mount; Min Operating Temperature: -40°C; Max Operating Temperature: 125°C; Packaging: Tape and Reel; Length: 11.6mm; Width: 10.5mm; Height: 8.8mm; DC Resistance Max: 1.76mΩ; Inductance: 1.5μH; Performance Rated Current: 40.6A
footprint WE-XHMI_1090
simulation model 1090_74439369015_1.5u
pins: 1, 2

## 74439369022
designator L?, comment 2.2μH
WE-XHMI SMT Power Inductor, size 1090, 2.2μH, 32.05A, 2.42mΩ; Manufacturer Part Number: 74439369022; Manufacturer: Wurth Elektronik; Case/Size Code: 1090; DC Resistance: 2.2mΩ; Saturation Current @ 30%: 32.1A; Self Resonant Frequency: 28MHz; Category: Power Inductors; Match Code: WE-XHMI; ComponentLink1Description: Website Link; ComponentLink1URL: https://www.we-online.com/redexpert/article/74439369022?ad; ComponentLink2Description: Datasheet Link; ComponentLink2URL: https://www.we-online.com/redexpert/spec/74439369022?ad; Mount: Surface Mount; Min Operating Temperature: -40°C; Max Operating Temperature: 125°C; Packaging: Tape and Reel; Length: 11.6mm; Width: 10.5mm; Height: 8.8mm; DC Resistance Max: 2.42mΩ; Inductance: 2.2μH; Performance Rated Current: 32.05A
footprint WE-XHMI_1090
simulation model 1090_74439369022_2.2u
pins: 1, 2

## 74439369033
designator L?, comment 3.3μH
WE-XHMI SMT Power Inductor, size 1090, 3.3μH, 24.95A, 3.74mΩ; Manufacturer Part Number: 74439369033; Manufacturer: Wurth Elektronik; Case/Size Code: 1090; DC Resistance: 3.4mΩ; Saturation Current @ 30%: 34A; Self Resonant Frequency: 23MHz; Category: Power Inductors; Match Code: WE-XHMI; ComponentLink1Description: Website Link; ComponentLink1URL: https://www.we-online.com/redexpert/article/74439369033?ad; ComponentLink2Description: Datasheet Link; ComponentLink2URL: https://www.we-online.com/redexpert/spec/74439369033?ad; Mount: Surface Mount; Min Operating Temperature: -40°C; Max Operating Temperature: 125°C; Packaging: Tape and Reel; Length: 11.6mm; Width: 10.5mm; Height: 8.8mm; DC Resistance Max: 3.74mΩ; Inductance: 3.3μH; Performance Rated Current: 24.95A
footprint WE-XHMI_1090
simulation model 1090_74439369033_3.3u
pins: 1, 2

## 74439369047
designator L?, comment 4.7μH
WE-XHMI SMT Power Inductor, size 1090, 4.7μH, 20A, 5.5mΩ; Manufacturer Part Number: 74439369047; Manufacturer: Wurth Elektronik; Case/Size Code: 1090; DC Resistance: 5mΩ; Saturation Current @ 30%: 28.05A; Self Resonant Frequency: 21MHz; Category: Power Inductors; Match Code: WE-XHMI; ComponentLink1Description: Website Link; ComponentLink1URL: https://www.we-online.com/redexpert/article/74439369047?ad; ComponentLink2Description: Datasheet Link; ComponentLink2URL: https://www.we-online.com/redexpert/spec/74439369047?ad; Mount: Surface Mount; Min Operating Temperature: -40°C; Max Operating Temperature: 125°C; Packaging: Tape and Reel; Length: 11.6mm; Width: 10.5mm; Height: 8.8mm; DC Resistance Max: 5.5mΩ; Inductance: 4.7μH; Performance Rated Current: 20A
footprint WE-XHMI_1090
simulation model 1090_74439369047_4.7u
pins: 1, 2

## 74439369056
designator L?, comment 5.6μH
WE-XHMI SMT Power Inductor, size 1090, 5.6μH, 18.15A, 6.49mΩ; Manufacturer Part Number: 74439369056; Manufacturer: Wurth Elektronik; Case/Size Code: 1090; DC Resistance: 5.9mΩ; Saturation Current @ 30%: 24.45A; Self Resonant Frequency: 18MHz; Category: Power Inductors; Match Code: WE-XHMI; ComponentLink1Description: Website Link; ComponentLink1URL: https://www.we-online.com/redexpert/article/74439369056?ad; ComponentLink2Description: Datasheet Link; ComponentLink2URL: https://www.we-online.com/redexpert/spec/74439369056?ad; Mount: Surface Mount; Min Operating Temperature: -40°C; Max Operating Temperature: 125°C; Packaging: Tape and Reel; Length: 11.6mm; Width: 10.5mm; Height: 8.8mm; DC Resistance Max: 6.49mΩ; Inductance: 5.6μH; Performance Rated Current: 18.15A
footprint WE-XHMI_1090
simulation model 1090_74439369056_5.6u
pins: 1, 2